# Altium footprint library SRV05-4PTCT.PcbLib: 1 footprints
Each footprint in its own frame and in the unit in brackets; x right, y up, seen from the top. Pads: shape width x height; smd on the part's side, far side on the other; paste and mask are expansions set on the pad; w line width, h text height; cw(c..) or ccw(c..) is an arc to the next point about the centre after c.
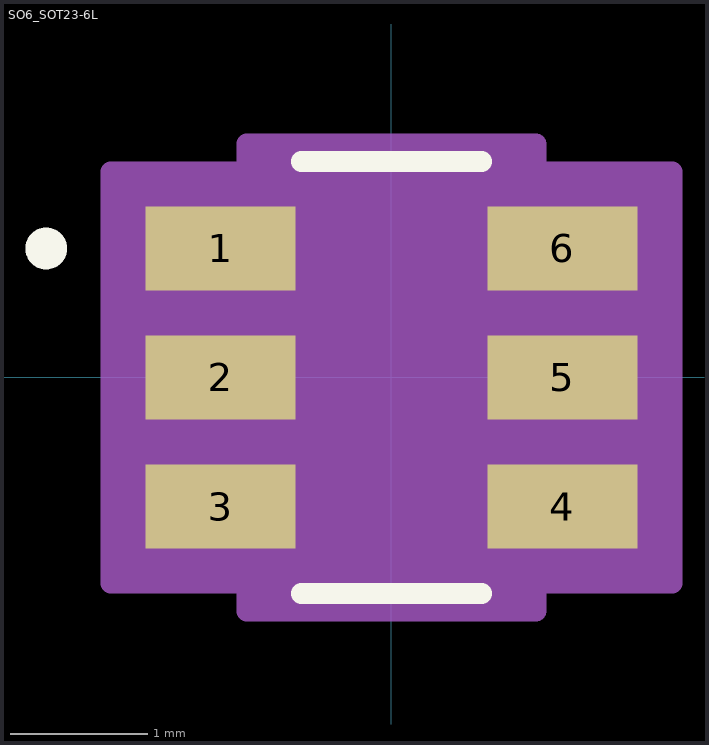
[diagram p0: the footprint, top view; thin cyan lines are the x and y axes]

## SO6_SOT23-6L [mil]
pads (6):
  rect 43x24 smd paste+0 mask+0: 1(-49,37) 2(-49,0) 3(-49,-37) 4(49,-37) 5(49,0) 6(49,37)
Top Overlay:
  circle w6: c-99,37 r3
  lines w6: -25.88,-62 25.88,-62 ; -25.88,62 25.88,62
Mechanical 13:
  circle w0: c-21.5,37 r3
  lines w0: -12,57 ccw(c0,57) 12,57
  lines w1: -31.5,-57 31.5,-57 31.5,57 -31.5,57 -31.5,-57
Mechanical 15:
  region: -41.5,-59 -80.5,-59 -80.5,59 -41.5,59 -41.5,67 41.5,67 41.5,59 80.5,59 80.5,-59 41.5,-59 41.5,-67 -41.5,-67
  lines w6: -80.5,-59 -80.5,59 -41.5,59 -41.5,67 41.5,67 41.5,59 80.5,59 80.5,-59 41.5,-59 41.5,-67 -41.5,-67 -41.5,-59 -80.5,-59
3D body "SO6_SOT23-6L.step": height 57.01, standoff 0, extent -56.73,-57.01 56.73,57.01